# Altium footprint library SO8-SPE-6N138.PcbLib: 1 footprints
Each footprint in its own frame and in the unit in brackets; x right, y up, seen from the top. Pads: shape width x height; smd on the part's side, far side on the other; paste and mask are expansions set on the pad; w line width, h text height; cw(c..) or ccw(c..) is an arc to the next point about the centre after c.
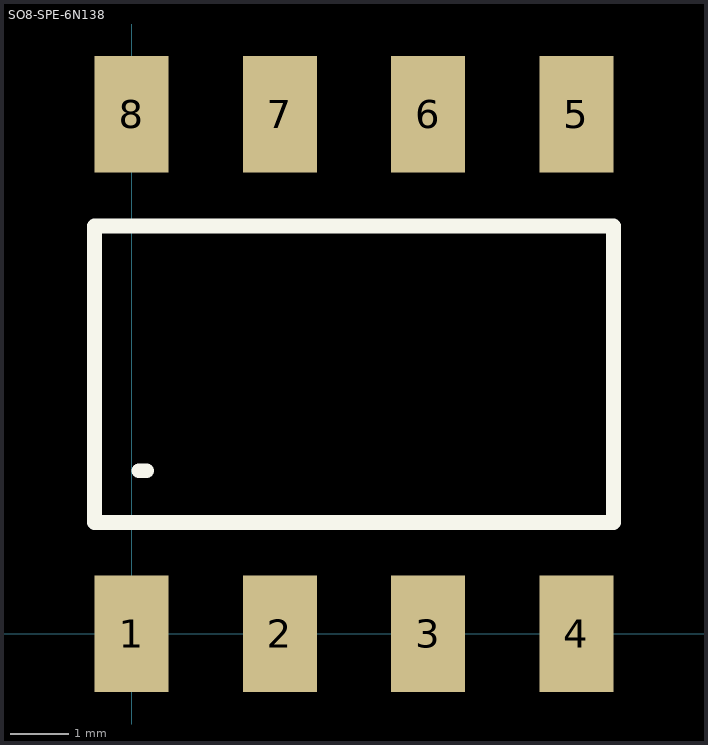
[diagram p0: the footprint, top view; thin cyan lines are the x and y axes]

## SO8-SPE-6N138 [mm]
pads (8):
  rect 1.27x2 smd: 1(0,0) 2(2.54,0) 3(5.08,0) 4(7.62,0) 5(7.62,8.9) 6(5.08,8.9) 7(2.54,8.9) 8(0,8.9)
Top Overlay:
  lines w0.254: 0.127,2.794 0.254,2.794 ; -0.635,1.905 -0.635,6.985 8.255,6.985 8.255,1.905 -0.635,1.905
3D body: height 4.35, standoff 0.02, extent -1.143,-0.505 8.757,9.395